# Altium footprint library IPC-7359 QFN_Sq_100P_Side_L.PcbLib: 1 footprints
Each footprint in its own frame and in the unit in brackets; x right, y up, seen from the top. Pads: shape width x height; smd on the part's side, far side on the other; paste and mask are expansions set on the pad; w line width, h text height; cw(c..) or ccw(c..) is an arc to the next point about the centre after c.
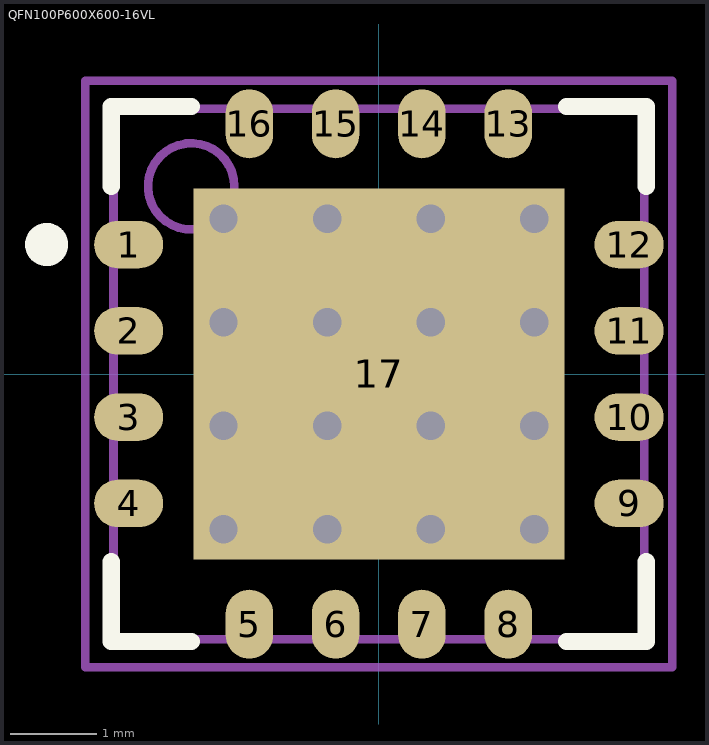
[diagram p0: the footprint, top view; thin cyan lines are the x and y axes]

## QFN100P600X600-16VL [mm] "QFN, 16-Leads, Body 6x6 mm, Pitch 1mm, IPC High Density"
height 2.08
pads (17):
  oval 0.8x0.55 smd: 1(-2.9,1.5) 2(-2.9,0.5) 3(-2.9,-0.5) 4(-2.9,-1.5) 9(2.9,-1.5) 10(2.9,-0.5) 11(2.9,0.5) 12(2.9,1.5)
  oval 0.55x0.8 smd: 5(-1.5,-2.9) 6(-0.5,-2.9) 7(0.5,-2.9) 8(1.5,-2.9) 13(1.5,2.9) 14(0.5,2.9) 15(-0.5,2.9) 16(-1.5,2.9)
  rect 4.3x4.3 smd: 17(0,0)
via 1.8,-1.8 diameter 0.66 hole 0.33
via 0.6,-1.8 diameter 0.66 hole 0.33
via -0.6,-1.8 diameter 0.66 hole 0.33
via -1.8,-1.8 diameter 0.66 hole 0.33
via 1.8,-0.6 diameter 0.66 hole 0.33
via 0.6,-0.6 diameter 0.66 hole 0.33
via -0.6,-0.6 diameter 0.66 hole 0.33
via -1.8,-0.6 diameter 0.66 hole 0.33
via 1.8,0.6 diameter 0.66 hole 0.33
via 0.6,0.6 diameter 0.66 hole 0.33
via -0.6,0.6 diameter 0.66 hole 0.33
via -1.8,0.6 diameter 0.66 hole 0.33
via 1.8,1.8 diameter 0.66 hole 0.33
via 0.6,1.8 diameter 0.66 hole 0.33
via -0.6,1.8 diameter 0.66 hole 0.33
via -1.8,1.8 diameter 0.66 hole 0.33
Top Overlay:
  circle w0.25: c-3.85,1.5 r0.125
  lines w0.2: -3.1,-2.175 -3.1,-3.1 -2.175,-3.1 ; -3.1,2.175 -3.1,3.1 -2.175,3.1 ; 2.175,-3.1 3.1,-3.1 3.1,-2.175 ; 2.175,3.1 3.1,3.1 3.1,2.175
Mechanical 13:
  circle w0.1: c-2.175,2.175 r0.5
  lines w0.1: -3.075,-3.075 3.075,-3.075 3.075,3.075 -3.075,3.075 -3.075,-3.075
Mechanical 15:
  lines w0.1: -0.5,0 0.5,0 ; 0,-0.5 0,0.5 ; -3.4,-3.4 3.4,-3.4 3.4,3.4 -3.4,3.4 -3.4,-3.4
3D body: height 2.08, standoff 0, extent -3.075,-3.075 3.075,3.075